# Altium footprint library Pheonix_header_7X2_pin.PcbLib: 1 footprints
Each footprint in its own frame and in the unit in brackets; x right, y up, seen from the top. Pads: shape width x height; smd on the part's side, far side on the other; paste and mask are expansions set on the pad; w line width, h text height; cw(c..) or ccw(c..) is an arc to the next point about the centre after c.
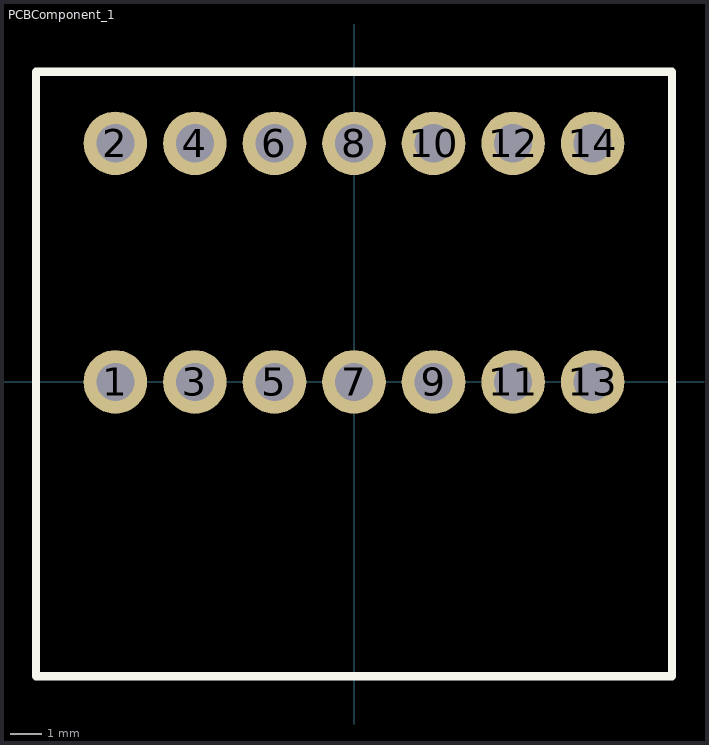
[diagram p0: the footprint, top view; thin cyan lines are the x and y axes]

## PCBComponent_1 [mm]
pads (14):
  round 2 hole 1.2: 1(-7.5,0) 2(-7.5,7.5) 3(-5,0) 4(-5,7.5) 5(-2.5,0) 6(-2.5,7.5) 7(0,0) 8(0,7.5) 9(2.5,0) 10(2.5,7.5) 11(5,0) 12(5,7.5) 13(7.5,0) 14(7.5,7.5)
Top Overlay:
  lines w0.254: -10,-9.25 -10,9.75 10,9.75 10,-9.25 -10,-9.25